# Altium schematic symbol library 61300211121.SchLib: 2 symbols
Pins are listed as number, name and electrical type; pins without a type are passive.

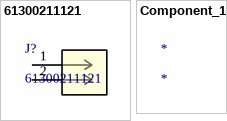
[diagram p0: symbols 61300211121 to Component_1]

## 61300211121
designator J?
No Description Available; Mfr_Name: Wurth Electronics; Copyright: Copyright (C) 2022 Ultra Librarian. All rights reserved.; Manufacturer_Part_Number: 61300211121; Digi-Key_Part_Number_1: 732-5315-ND; Digi-Key_Part_Number_2: 732-5315-NDL; RefDes: RefDes; Type: DEV
footprint CONN_61300211121_WRE
pins: 1, 2

## Component_1
designator *